# EAGLE library part TSZ122 (library (user-cadsoft)-st-microelectronics-tsz12x)
The library has been designed by Richard Magdycz <https://www.facebook.com/groups/eaglecadsoftUK>
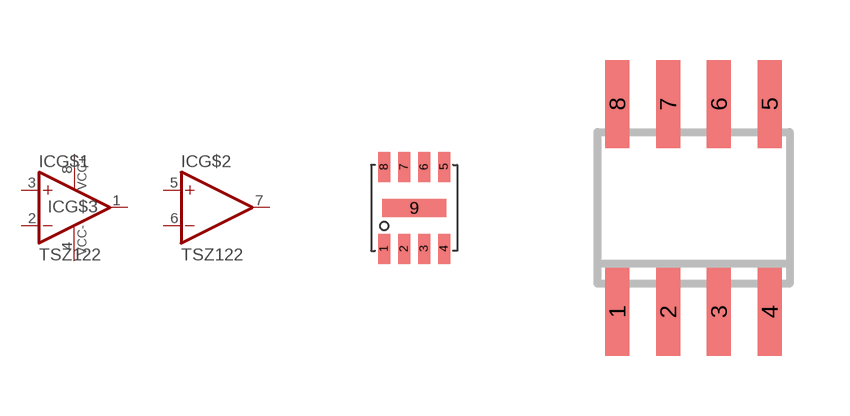
[diagram p0: symbol with the pads of DFN8-2X2; footprints DFN8-2X2, SO08]

Designator prefix IC; gates G$1=A G$2=A G$3=PWR

## TSZ122IQ2T  [DFN8-2X2]
1  G$1:OUT  out
2  G$1:IN-  in
3  G$1:IN+  in
4  G$3:VCC-  pwr
5  G$2:IN+  in
6  G$2:IN-  in
7  G$2:OUT  out
8  G$3:VCC+  pwr

## TSZ122IDT  [SO08]
Pads as for DFN8-2X2

## TSZ122IST  [MSOP8]
Pads as for DFN8-2X2

## Footprint DFN8-2X2 (pad centres in mm)
smd 0.3 x 0.75: 1 -0.75,-1.025; 2 -0.25,-1.025; 3 0.25,-1.025; 4 0.75,-1.025; 5 0.75,1.025; 6 0.25,1.025; 7 -0.25,1.025; 8 -0.75,1.025
smd 1.6 x 0.45: 9 0,0

## Footprint SO08 (pad centres in mm)
Small Outline Package 8 NS Package M08A
smd 0.6 x 2.2: 1 -1.905,-2.6; 2 -0.635,-2.6; 3 0.635,-2.6; 4 1.905,-2.6; 5 1.905,2.6; 6 0.635,2.6; 7 -0.635,2.6; 8 -1.905,2.6

## Footprint MSOP8 (pad centres in mm)
Micro Small Outline Package Grid .65mm
smd 0.45 x 1: 1 -0.975,-2.05; 2 -0.325,-2.05; 3 0.325,-2.05; 4 0.975,-2.05; 5 0.975,2.05; 6 0.325,2.05; 7 -0.325,2.05; 8 -0.975,2.05